# Altium schematic symbol library Connector-Audio.SchLib: 12 symbols
Pins are listed as number, name and electrical type; pins without a type are passive.

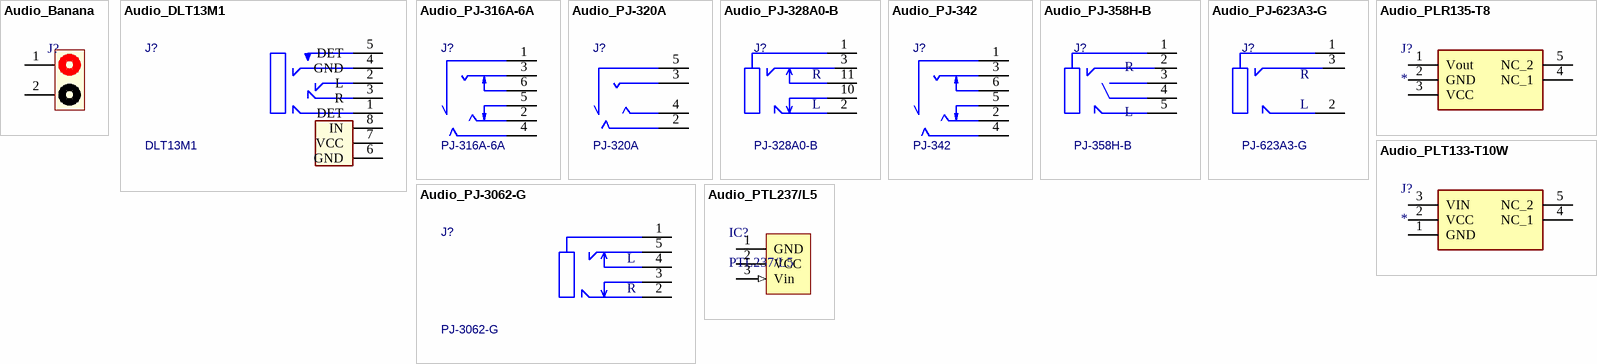
[diagram p0: symbols Audio_Banana to Audio_PTL237/L5]

## Audio_Banana
designator J?, comment Banana Connector  (value not drawn)
香蕉座; Manufacturer_Name: *; Manufacturer_Part_Number: *; LCSC: *
footprint Banana Connector
pins: 1, 2

## Audio_DLT13M1
designator J?, comment DLT13M1
3.5音频光纤座子; Manufacturer_Name: 爱鑫光电; Manufacturer_Part_Number: DLT13M1; ComponentLink1Description: TAOBAO; ComponentLink1URL: https://item.taobao.com/item.htm?id=546485791705
footprint DLT13M1
pins: 1 DET, 2 L, 3 R, 4 GND, 5 DET, 6 GND, 7 VCC, 8 IN

## Audio_PJ-316A-6A
designator J?, comment PJ-316A-6A
3.5音频链接座子; Manufacturer_Name: HRO; Manufacturer_Part_Number: PJ-316A-6A; LCSC: *; Manufacturer_Name_1: *; Manufacturer_Part_Number_1: *
footprint PJ-316A-6A (Footprint not found)
pins: 1, 2, 3, 4, 5, 6

## Audio_PJ-320A
designator J?, comment PJ-320A
3.5音频链接座子; Manufacturer_Name: XKB Connectivity(中国星坤); Manufacturer_Part_Number: PJ-320A; LCSC: *
footprint PJ-320A (PJ-320A XKB Connectivity)
pins: 2, 3, 4, 5

## Audio_PJ-328A0-B
designator J?, comment PJ-328A0-B
3.5音频链接座子; Manufacturer_Name: XKB Connectivity(中国星坤); Manufacturer_Part_Number: PJ-328A0-B; LCSC: *; Manufacturer_Name_1: *; Manufacturer_Part_Number_1: *
footprint PJ-328A0-B
pins: 1, 2, 3, 10, 11
text: R; L

## Audio_PJ-342
designator J?, comment PJ-342
3.5音频链接座子; Manufacturer_Name: SHOU HAN(首韩); Manufacturer_Part_Number: PJ-342; LCSC: C668606; Manufacturer_Name_1: *; Manufacturer_Part_Number_1: *
footprint PJ-342 (SHOU HAN(首韩)  PJ-342)
pins: 1, 2, 3, 4, 5, 6

## Audio_PJ-358H-B
designator J?, comment PJ-358H-B
3.5音频链接座子; Manufacturer_Name: XKB Connectivity(中国星坤); Manufacturer_Part_Number: PJ-358H-B; LCSC: *; Manufacturer_Name_1: *; Manufacturer_Part_Number_1: *
footprint PJ-358H-B (PJ-3062-G (XKB))
pins: 1, 2, 3, 4, 5
text: R; L

## Audio_PJ-623A3-G
designator J?, comment PJ-623A3-G
6.35mm耳机座 3脚3级插脚; Manufacturer_Name: XKB Connectivity(中国星坤); Manufacturer_Part_Number: PJ-623A3-G; LCSC: C2884927; Manufacturer_Name_1: *; Manufacturer_Part_Number_1: *
footprint PJ-623A3-G (XKB Connection，6.35 HP Connecter)
pins: 1, 2, 3
text: R; L

## Audio_PJ-3062-G
designator J?, comment PJ-3062-G
3.5音频链接座子; Manufacturer_Name: XKB Connectivity(中国星坤); Manufacturer_Part_Number: PJ-3062-G
footprint PJ-3062-G (PJ-3062-G (XKB))
pins: 1 "Sleeve", 2 "Ring", 3, 4, 5 "Tip"
text: L; R

## Audio_PLR135-T8
designator J?
音频光纤接收座; Manufacturer_Name: Everlight; Manufacturer_Part_Number: PLR135/T8
footprint PLR135/T8 (光纤接收端子)
pins: 1 Vout, 2 GND, 3 VCC, 4 NC_1, 5 NC_2

## Audio_PLT133-T10W
designator J?
音频光纤发射座; Manufacturer_Name: Everlight; Manufacturer_Part_Number: PLT133/T10W
footprint PLT133/T10W
pins: 1 GND, 2 VCC, 3 VIN, 4 NC_1, 5 NC_2

## Audio_PTL237/L5
designator IC?, comment PTL237/L5
光纤发射模组; Manufacturer_Name: *; Manufacturer_Part_Number: *
footprint PLT237/L5
pins: 1 GND (power), 2 VCC (power), 3 Vin (in)